# EAGLE library part ADXLPI_GPS (library adxpi)
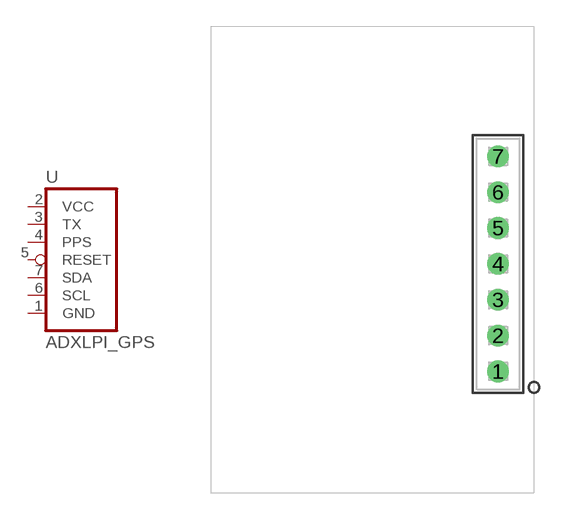
[diagram p0: symbol with the pads of MAX_1_0A; footprint MAX_1_0A]

Designator prefix -

## ADXLPI_GPS  [MAX_1_0A]
1  GND  pwr
2  VCC  pwr
3  TX  out
4  PPS  out
5  RESET  in
6  SCL
7  SDA

## Footprint MAX_1_0A (pad centres in mm)
drill 0.7 pad 1.1 round: 1 0,-6; 2 0,-4; 3 0,-2; 4 0,0; 5 0,2; 6 0,4; 7 0,6